# Altium footprint library Components - ldo 3.3 ams1117.PcbLib: 3 footprints
Each footprint in its own frame and in the unit in brackets; x right, y up, seen from the top. Pads: shape width x height; smd on the part's side, far side on the other; paste and mask are expansions set on the pad; w line width, h text height; cw(c..) or ccw(c..) is an arc to the next point about the centre after c.
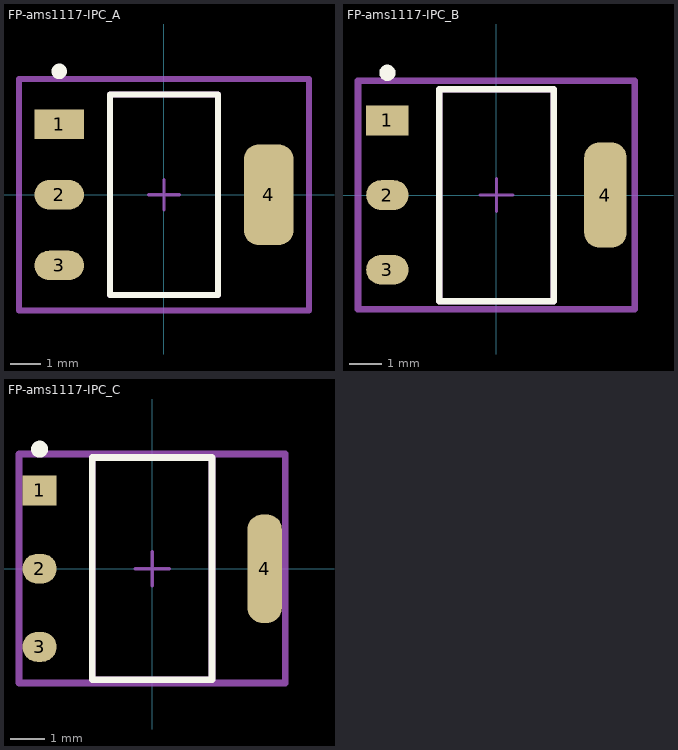
[diagram p0: the footprints below, top view; thin cyan lines are the x and y axes]

## FP-ams1117-IPC_A [mm]
pads (4):
  rect 1.604x0.952 smd paste+0 mask+0: 1(-3.395,2.29)
  rrect100% 1.604x0.952 smd paste+0 mask+0: 2(-3.395,0) 3(-3.395,-2.29)
  rrect59% 1.604x3.262 smd paste+0 mask+0: 4(3.395,0)
Top Overlay:
  circle w0.25: c-3.395,4 r0.125
  lines w0.2: -1.753,-3.253 1.753,-3.253 1.753,3.253 -1.753,3.253 -1.753,-3.253
Top Assembly:
  lines w0.2: -4.697,-3.752 4.697,-3.752 4.697,3.752 -4.697,3.752 -4.697,-3.752
  text ".Designator" at 0,0.188 h1
Top 3D Body:
  lines w0.2: -1.753,-3.253 1.753,-3.253 1.753,3.253 -1.753,3.253 -1.753,-3.253
Top Courtyard:
  lines w0.2: -4.697,-3.752 4.697,-3.752 4.697,3.752 -4.697,3.752 -4.697,-3.752
Top Component Center:
  lines w0.1: -0.5,0 0.5,0 ; 0,-0.5 0,0.5
3D body "IC_Advanced_Monolithic_Systems_ams1117_eec.STEP": height 0.25, standoff 0, extent -4.697,-3.752 4.697,3.752

## FP-ams1117-IPC_B [mm]
pads (4):
  rect 1.304x0.912 smd paste+0 mask+0: 1(-3.345,2.29)
  rrect100% 1.304x0.912 smd paste+0 mask+0: 2(-3.345,0) 3(-3.345,-2.29)
  rrect70% 1.304x3.222 smd paste+0 mask+0: 4(3.345,0)
Top Overlay:
  circle w0.25: c-3.345,3.75 r0.125
  lines w0.2: -1.753,-3.253 1.753,-3.253 1.753,3.253 -1.753,3.253 -1.753,-3.253
Top Assembly:
  lines w0.2: -4.247,-3.502 4.247,-3.502 4.247,3.502 -4.247,3.502 -4.247,-3.502
  text ".Designator" at 0,0.188 h1
Top 3D Body:
  lines w0.2: -1.753,-3.253 1.753,-3.253 1.753,3.253 -1.753,3.253 -1.753,-3.253
Top Courtyard:
  lines w0.2: -4.247,-3.502 4.247,-3.502 4.247,3.502 -4.247,3.502 -4.247,-3.502
Top Component Center:
  lines w0.1: -0.5,0 0.5,0 ; 0,-0.5 0,0.5
3D body "IC_Advanced_Monolithic_Systems_ams1117_eec.STEP": height 0.25, standoff 0, extent -4.247,-3.502 4.247,3.502

## FP-ams1117-IPC_C [mm]
pads (4):
  rect 1.004x0.872 smd paste+0 mask+0: 1(-3.295,2.29)
  rrect100% 1.004x0.872 smd paste+0 mask+0: 2(-3.295,0) 3(-3.295,-2.29)
  rrect87% 1.004x3.182 smd paste+0 mask+0: 4(3.295,0)
Top Overlay:
  circle w0.25: c-3.295,3.5 r0.125
  lines w0.2: -1.753,-3.253 1.753,-3.253 1.753,3.253 -1.753,3.253 -1.753,-3.253
Top Assembly:
  lines w0.2: -3.897,-3.353 3.897,-3.353 3.897,3.353 -3.897,3.353 -3.897,-3.353
  text ".Designator" at 0,0.188 h1
Top 3D Body:
  lines w0.2: -1.753,-3.253 1.753,-3.253 1.753,3.253 -1.753,3.253 -1.753,-3.253
Top Courtyard:
  lines w0.2: -3.897,-3.353 3.897,-3.353 3.897,3.353 -3.897,3.353 -3.897,-3.353
Top Component Center:
  lines w0.1: -0.5,0 0.5,0 ; 0,-0.5 0,0.5
3D body "IC_Advanced_Monolithic_Systems_ams1117_eec.STEP": height 0.25, standoff 0, extent -3.897,-3.353 3.897,3.353